# EAGLE library part LTC1043CSWPBF (library SquantorLinearTechnology)
Dual Precision Instrumentation Switched Capacitor Building Block
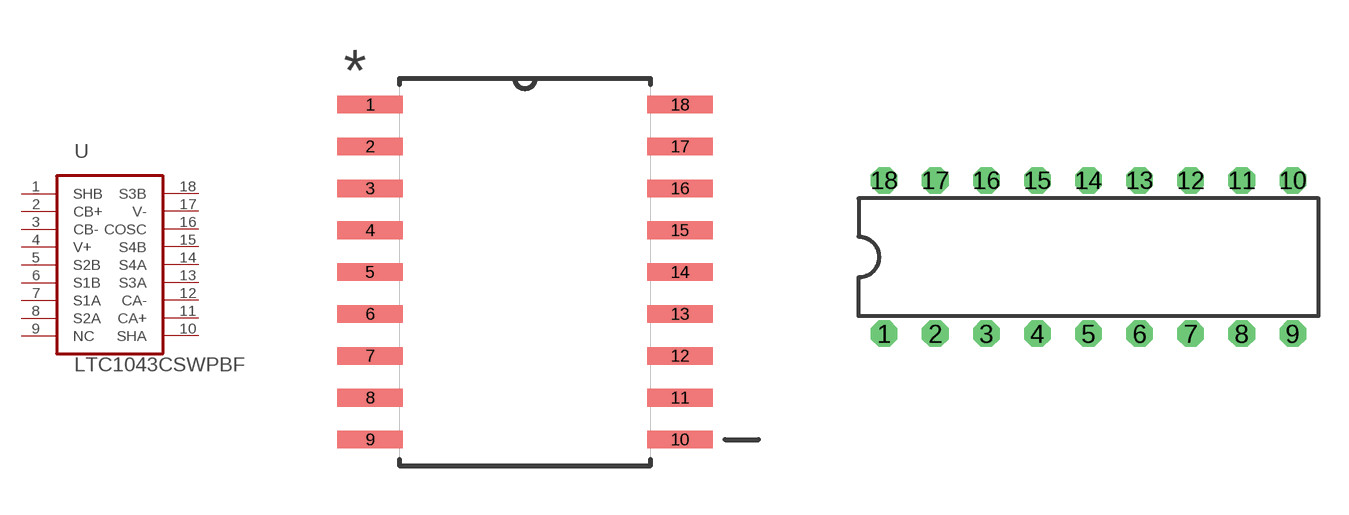
[diagram p6: symbol with the pads of SOIC127P1032X264-18N; footprints SOIC127P1032X264-18N, N18-PDIP18]

Designator prefix U

## LTC1043CSWPBFSW (MPN: LTC1043CSW#PBF; OC_FARNELL: 1663591; OC_NEWARK: 55M8881; PACKAGE: SOIC-18; SUPPLIER: Linear Technology)  [SOIC127P1032X264-18N]
1  SHB  pas
2  CB+  pas
3  CB-  pas
4  V+  pwr
5  S2B  pas
6  S1B  pas
7  S1A  pas
8  S2A  pas
9  NC  nc
10  SHA  pas
11  CA+  pas
12  CA-  pas
13  S3A  pas
14  S4A  pas
15  S4B  pas
16  COSC  pas
17  V-  pwr
18  S3B  pas

## LTC1043CSWPBF  [N18-PDIP18]
Pads as for SOIC127P1032X264-18N

## Footprint SOIC127P1032X264-18N (pad centres in mm)
smd 1.981 x 0.533: 1 -4.699,5.08; 2 -4.699,3.81; 3 -4.699,2.54; 4 -4.699,1.27; 5 -4.699,0; 6 -4.699,-1.27; 7 -4.699,-2.54; 8 -4.699,-3.81; 9 -4.699,-5.08; 10 4.699,-5.08; 11 4.699,-3.81; 12 4.699,-2.54; 13 4.699,-1.27; 14 4.699,0; 15 4.699,1.27; 16 4.699,2.54; 17 4.699,3.81; 18 4.699,5.08

## Footprint N18-PDIP18 (pad centres in mm)
drill 0.813 octagon: 1 -12.7,-3.81; 2 -10.16,-3.81; 3 -7.62,-3.81; 4 -5.08,-3.81; 5 -2.54,-3.81; 6 0,-3.81; 7 2.54,-3.81; 8 5.08,-3.81; 9 7.62,-3.81; 10 7.62,3.81; 11 5.08,3.81; 12 2.54,3.81; 13 0,3.81; 14 -2.54,3.81; 15 -5.08,3.81; 16 -7.62,3.81; 17 -10.16,3.81; 18 -12.7,3.81